# EAGLE library part TLV5623 (library zlalanne)
TLV5623 8-Bit Serial DAC
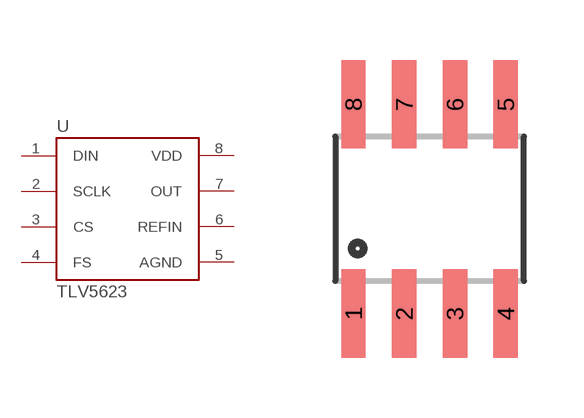
[diagram p1: symbol with the pads of SOIC8; footprint SOIC8]

Designator prefix -

## TLV5623  [SOIC8]
1  DIN
2  SCLK
3  CS
4  FS
5  AGND
6  REFIN
7  OUT
8  VDD

## Footprint SOIC8 (pad centres in mm)
smd 0.61 x 2.21: 1 -1.905,-2.616; 2 -0.635,-2.616; 3 0.635,-2.616; 4 1.905,-2.616; 5 1.905,2.616; 6 0.635,2.616; 7 -0.635,2.616; 8 -1.905,2.616